# Altium footprint library IR_Vcsels.PcbLib: 1 footprints
Each footprint in its own frame and in the unit in brackets; x right, y up, seen from the top. Pads: shape width x height; smd on the part's side, far side on the other; paste and mask are expansions set on the pad; w line width, h text height; cw(c..) or ccw(c..) is an arc to the next point about the centre after c.
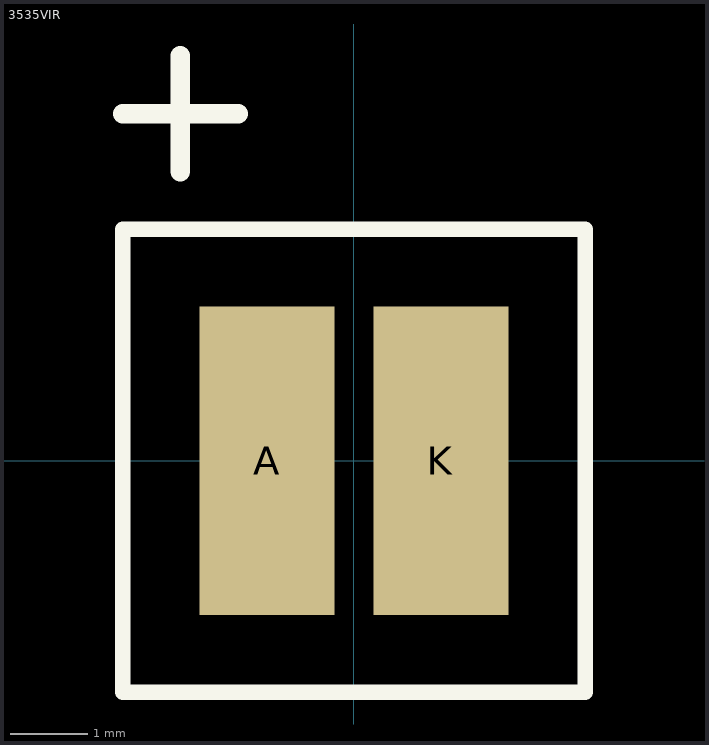
[diagram p0: the footprint, top view; thin cyan lines are the x and y axes]

## 3535VIR [mm]
pads (2):
  rect 1.75x4 smd: A(-1.125,0) K(1.125,0)
Top Overlay:
  lines w0.2: -3,-3 3,-3 3,3 -3,3 -3,0 -3,-3
  lines w0.254: -3,4.5 -1.5,4.5 ; -2.25,3.75 -2.25,5.25
3D body: height 1.35, standoff 0, extent -1.75,-1.75 1.75,1.75